# EAGLE library part TLW-123-05-T-D (library SAMTEC-Txx_By_element14_Batch_1)
LOW PROFILE HEADER, DOUBLE ROW, 46 way
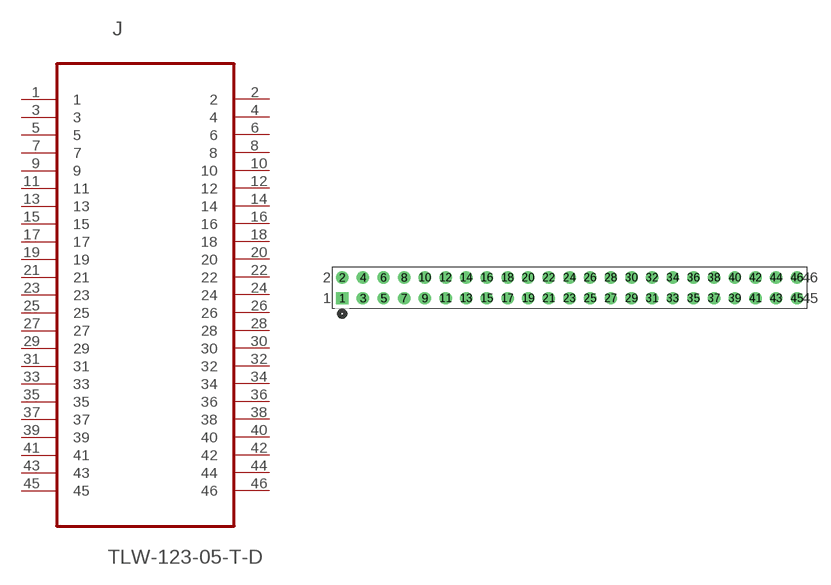
[diagram p275: symbol with the pads of SAMTEC_TLW-123-05-T-D; footprint SAMTEC_TLW-123-05-T-D]

Designator prefix J

## TLW-123-05-T-D (MPN: TLW-123-05-T-D; OC_FARNELL: -; OC_NEWARK: 12P0536; PACKAGE: LOW PROFILE HEADER; SUPPLIER: SAMTEC)  [SAMTEC_TLW-123-05-T-D]
1  1  pas
2  2  pas
3  3  pas
4  4  pas
5  5  pas
6  6  pas
7  7  pas
8  8  pas
9  9  pas
10  10  pas
11  11  pas
12  12  pas
13  13  pas
14  14  pas
15  15  pas
16  16  pas
17  17  pas
18  18  pas
19  19  pas
20  20  pas
21  21  pas
22  22  pas
23  23  pas
24  24  pas
25  25  pas
26  26  pas
27  27  pas
28  28  pas
29  29  pas
30  30  pas
31  31  pas
32  32  pas
33  33  pas
34  34  pas
35  35  pas
36  36  pas
37  37  pas
38  38  pas
39  39  pas
40  40  pas
41  41  pas
42  42  pas
43  43  pas
44  44  pas
45  45  pas
46  46  pas

## Footprint SAMTEC_TLW-123-05-T-D (pad centres in mm)
drill 1.016 square: 1 -55.88,-2.54
drill 1.016: 2 -55.88,0; 3 -53.34,-2.54; 4 -53.34,0; 5 -50.8,-2.54; 6 -50.8,0; 7 -48.26,-2.54; 8 -48.26,0; 9 -45.72,-2.54; 10 -45.72,0; 11 -43.18,-2.54; 12 -43.18,0; 13 -40.64,-2.54; 14 -40.64,0; 15 -38.1,-2.54; 16 -38.1,0; 17 -35.56,-2.54; 18 -35.56,0; 19 -33.02,-2.54; 20 -33.02,0; 21 -30.48,-2.54; 22 -30.48,0; 23 -27.94,-2.54; 24 -27.94,0; 25 -25.4,-2.54; 26 -25.4,0; 27 -22.86,-2.54; 28 -22.86,0; 29 -20.32,-2.54; 30 -20.32,0; 31 -17.78,-2.54; 32 -17.78,0; 33 -15.24,-2.54; 34 -15.24,0; 35 -12.7,-2.54; 36 -12.7,0; 37 -10.16,-2.54; 38 -10.16,0; 39 -7.62,-2.54; 40 -7.62,0; 41 -5.08,-2.54; 42 -5.08,0; 43 -2.54,-2.54; 44 -2.54,0; 45 0,-2.54; 46 0,0